# EAGLE library part SSW-129-02-S-T (library con-samtec)
THROUGH-HOLE .025" SQ POST SOCKET Source: Samtec SSW.pdf
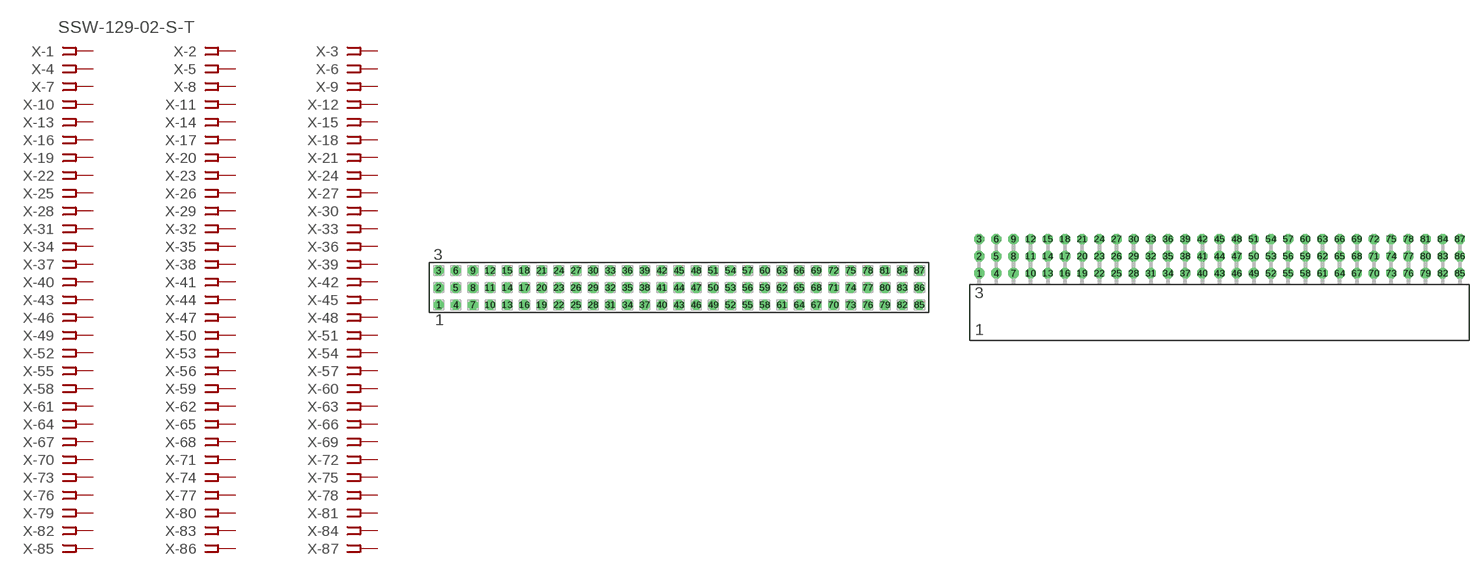
[diagram p27: symbol with the pads of SSW-129-02-S-T; footprints SSW-129-02-S-T, SSW-129-02-S-T-RA]

Designator prefix X; gates -1=FPINV -2=FPIN -3=FPIN -4=FPIN -5=FPIN -6=FPIN -7=FPIN -8=FPIN -9=FPIN -10=FPIN -11=FPIN -12=FPIN -13=FPIN -14=FPIN -15=FPIN -16=FPIN -17=FPIN -18=FPIN -19=FPIN -20=FPIN -21=FPIN -22=FPIN -23=FPIN -24=FPIN -25=FPIN -26=FPIN -27=FPIN -28=FPIN -29=FPIN -30=FPIN -31=FPIN -32=FPIN -33=FPIN -34=FPIN -35=FPIN -36=FPIN -37=FPIN -38=FPIN -39=FPIN -40=FPIN -41=FPIN -42=FPIN -43=FPIN -44=FPIN -45=FPIN -46=FPIN -47=FPIN -48=FPIN -49=FPIN -50=FPIN -51=FPIN -52=FPIN -53=FPIN -54=FPIN -55=FPIN -56=FPIN -57=FPIN -58=FPIN -59=FPIN -60=FPIN -61=FPIN -62=FPIN -63=FPIN -64=FPIN -65=FPIN -66=FPIN -67=FPIN -68=FPIN -69=FPIN -70=FPIN -71=FPIN -72=FPIN -73=FPIN -74=FPIN -75=FPIN -76=FPIN -77=FPIN -78=FPIN -79=FPIN -80=FPIN -81=FPIN -82=FPIN -83=FPIN -84=FPIN -85=FPIN -86=FPIN -87=FPIN

## SSW-129-02-S-T (MPN: SSW-129-02-S-T; OC_FARNELL: unknown; OC_NEWARK: 82P9923)  [SSW-129-02-S-T]
1  -1:1  pas
2  -2:1  pas
3  -3:1  pas
4  -4:1  pas
5  -5:1  pas
6  -6:1  pas
7  -7:1  pas
8  -8:1  pas
9  -9:1  pas
10  -10:1  pas
11  -11:1  pas
12  -12:1  pas
13  -13:1  pas
14  -14:1  pas
15  -15:1  pas
16  -16:1  pas
17  -17:1  pas
18  -18:1  pas
19  -19:1  pas
20  -20:1  pas
21  -21:1  pas
22  -22:1  pas
23  -23:1  pas
24  -24:1  pas
25  -25:1  pas
26  -26:1  pas
27  -27:1  pas
28  -28:1  pas
29  -29:1  pas
30  -30:1  pas
31  -31:1  pas
32  -32:1  pas
33  -33:1  pas
34  -34:1  pas
35  -35:1  pas
36  -36:1  pas
37  -37:1  pas
38  -38:1  pas
39  -39:1  pas
40  -40:1  pas
41  -41:1  pas
42  -42:1  pas
43  -43:1  pas
44  -44:1  pas
45  -45:1  pas
46  -46:1  pas
47  -47:1  pas
48  -48:1  pas
49  -49:1  pas
50  -50:1  pas
51  -51:1  pas
52  -52:1  pas
53  -53:1  pas
54  -54:1  pas
55  -55:1  pas
56  -56:1  pas
57  -57:1  pas
58  -58:1  pas
59  -59:1  pas
60  -60:1  pas
61  -61:1  pas
62  -62:1  pas
63  -63:1  pas
64  -64:1  pas
65  -65:1  pas
66  -66:1  pas
67  -67:1  pas
68  -68:1  pas
69  -69:1  pas
70  -70:1  pas
71  -71:1  pas
72  -72:1  pas
73  -73:1  pas
74  -74:1  pas
75  -75:1  pas
76  -76:1  pas
77  -77:1  pas
78  -78:1  pas
79  -79:1  pas
80  -80:1  pas
81  -81:1  pas
82  -82:1  pas
83  -83:1  pas
84  -84:1  pas
85  -85:1  pas
86  -86:1  pas
87  -87:1  pas

## SSW-129-02-S-TRA (OC_FARNELL: unknown; OC_NEWARK: unknown)  [SSW-129-02-S-T-RA]
Pads as for SSW-129-02-S-T

## Footprint SSW-129-02-S-T (pad centres in mm)
THROUGH-HOLE .025" SQ POST SOCKET Source: Samtec SSW.pdf
drill 1 pad 1.5 octagon: 1 -35.56,-2.54; 2 -35.56,0; 3 -35.56,2.54; 4 -33.02,-2.54; 5 -33.02,0; 6 -33.02,2.54; 7 -30.48,-2.54; 8 -30.48,0; 9 -30.48,2.54; 10 -27.94,-2.54; 11 -27.94,0; 12 -27.94,2.54; 13 -25.4,-2.54; 14 -25.4,0; 15 -25.4,2.54; 16 -22.86,-2.54; 17 -22.86,0; 18 -22.86,2.54; 19 -20.32,-2.54; 20 -20.32,0; 21 -20.32,2.54; 22 -17.78,-2.54; 23 -17.78,0; 24 -17.78,2.54; 25 -15.24,-2.54; 26 -15.24,0; 27 -15.24,2.54; 28 -12.7,-2.54; 29 -12.7,0; 30 -12.7,2.54; 31 -10.16,-2.54; 32 -10.16,0; 33 -10.16,2.54; 34 -7.62,-2.54; 35 -7.62,0; 36 -7.62,2.54; 37 -5.08,-2.54; 38 -5.08,0; 39 -5.08,2.54; 40 -2.54,-2.54; 41 -2.54,0; 42 -2.54,2.54; 43 0,-2.54; 44 0,0; 45 0,2.54; 46 2.54,-2.54; 47 2.54,0; 48 2.54,2.54; 49 5.08,-2.54; 50 5.08,0; 51 5.08,2.54; 52 7.62,-2.54; 53 7.62,0; 54 7.62,2.54; 55 10.16,-2.54; 56 10.16,0; 57 10.16,2.54; 58 12.7,-2.54; 59 12.7,0; 60 12.7,2.54; 61 15.24,-2.54; 62 15.24,0; 63 15.24,2.54; 64 17.78,-2.54; 65 17.78,0; 66 17.78,2.54; 67 20.32,-2.54; 68 20.32,0; 69 20.32,2.54; 70 22.86,-2.54; 71 22.86,0; 72 22.86,2.54; 73 25.4,-2.54; 74 25.4,0; 75 25.4,2.54; 76 27.94,-2.54; 77 27.94,0; 78 27.94,2.54; 79 30.48,-2.54; 80 30.48,0; 81 30.48,2.54; 82 33.02,-2.54; 83 33.02,0; 84 33.02,2.54; 85 35.56,-2.54; 86 35.56,0; 87 35.56,2.54

## Footprint SSW-129-02-S-T-RA (pad centres in mm)
THROUGH-HOLE .025" SQ POST SOCKET Source: Samtec SSW.pdf
drill 1 pad 1.5 octagon: 1 -35.56,1.524; 2 -35.56,4.064; 3 -35.56,6.604; 4 -33.02,1.524; 5 -33.02,4.064; 6 -33.02,6.604; 7 -30.48,1.524; 8 -30.48,4.064; 9 -30.48,6.604; 10 -27.94,1.524; 11 -27.94,4.064; 12 -27.94,6.604; 13 -25.4,1.524; 14 -25.4,4.064; 15 -25.4,6.604; 16 -22.86,1.524; 17 -22.86,4.064; 18 -22.86,6.604; 19 -20.32,1.524; 20 -20.32,4.064; 21 -20.32,6.604; 22 -17.78,1.524; 23 -17.78,4.064; 24 -17.78,6.604; 25 -15.24,1.524; 26 -15.24,4.064; 27 -15.24,6.604; 28 -12.7,1.524; 29 -12.7,4.064; 30 -12.7,6.604; 31 -10.16,1.524; 32 -10.16,4.064; 33 -10.16,6.604; 34 -7.62,1.524; 35 -7.62,4.064; 36 -7.62,6.604; 37 -5.08,1.524; 38 -5.08,4.064; 39 -5.08,6.604; 40 -2.54,1.524; 41 -2.54,4.064; 42 -2.54,6.604; 43 0,1.524; 44 0,4.064; 45 0,6.604; 46 2.54,1.524; 47 2.54,4.064; 48 2.54,6.604; 49 5.08,1.524; 50 5.08,4.064; 51 5.08,6.604; 52 7.62,1.524; 53 7.62,4.064; 54 7.62,6.604; 55 10.16,1.524; 56 10.16,4.064; 57 10.16,6.604; 58 12.7,1.524; 59 12.7,4.064; 60 12.7,6.604; 61 15.24,1.524; 62 15.24,4.064; 63 15.24,6.604; 64 17.78,1.524; 65 17.78,4.064; 66 17.78,6.604; 67 20.32,1.524; 68 20.32,4.064; 69 20.32,6.604; 70 22.86,1.524; 71 22.86,4.064; 72 22.86,6.604; 73 25.4,1.524; 74 25.4,4.064; 75 25.4,6.604; 76 27.94,1.524; 77 27.94,4.064; 78 27.94,6.604; 79 30.48,1.524; 80 30.48,4.064; 81 30.48,6.604; 82 33.02,1.524; 83 33.02,4.064; 84 33.02,6.604; 85 35.56,1.524; 86 35.56,4.064; 87 35.56,6.604